# EAGLE library part 2434804-1 (library 2434804-1)
Tactile Switches, Extended, Top Actuator Style, NO, Stainless Steel, Silver, Low Profile, 50 mA, 12 VDC Source: Datasheet <https://www.te.com/commerce/DocumentDelivery/DDEController?Action=showdoc&DocId=Customer Drawing2434804ApdfEnglishENG_CD_2434804_A.pdf2434804-1>
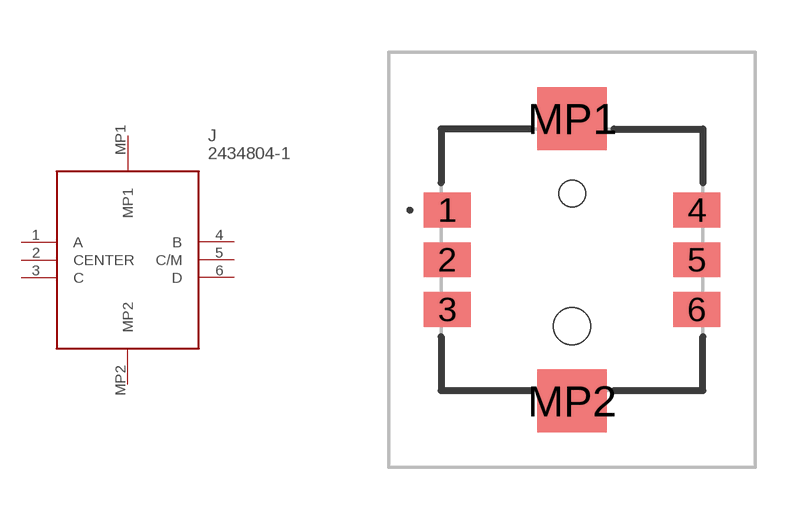
[diagram p0: symbol with the pads of 24348041; footprint 24348041]

Designator prefix J

## 2434804-1 (Description: Tactile Switches, Extended, Top Actuator Style, NO, Stainless Steel, Silver, Low Profile, 50 mA, 12 VDC; Height: 5.7mm; Manufacturer_Name: TE Connectivity; Manufacturer_Part_Number: 2434804-1; Mouser_Part_Number: 655-2434804-1; Mouser_Price-Stock: https://www.mouser.co.uk/ProductDetail/TE-Connectivity-Alcoswitch/2434804-1?qs=amGC7iS6iy%2Ff1nJtCucIMQ%3D%3D)  [24348041]
1  A
2  CENTER
3  C
4  B
5  C/M
6  D
MP1  MP1
MP2  MP2

## Footprint 24348041 (pad centres in mm)
2434804-1-2
smd 1.35 x 1: 1 -3.575,1.425; 2 -3.575,0; 3 -3.575,-1.425; 4 3.575,1.425; 5 3.575,0; 6 3.575,-1.425
smd 2 x 1.8: MP1 0,4.05; MP2 0,-4.05
hole 0.75 at 0,1.9
hole 1.05 at 0,-1.9